# EAGLE library part RJ45-RJE08-188-0110H (library dpx-con-CUSTOM)
Modular Connectors / Ethernet Connectors 8P Modular Jack Unshielded no Flange Source: Datasheet <https://componentsearchengine.com/Datasheets/1/RJE08-188-0110H.pdf>
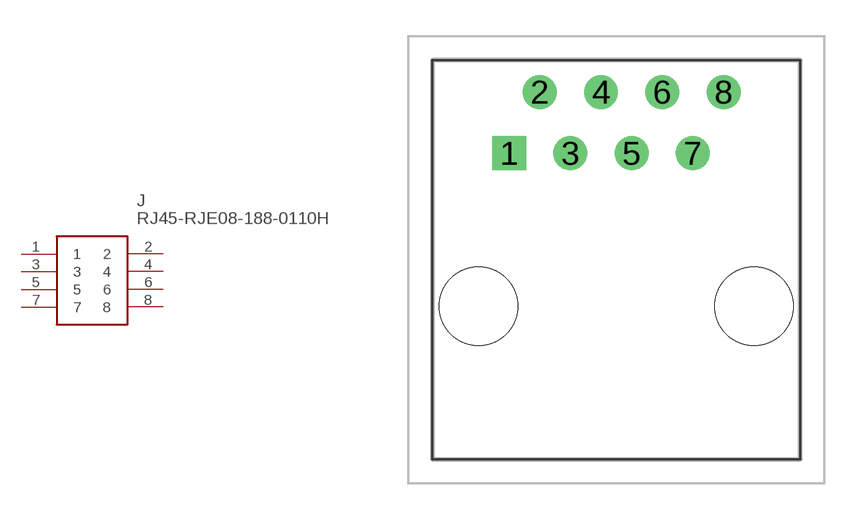
[diagram p0: symbol with the pads of RJ45-AMP-RJE081880110H; footprint RJ45-AMP-RJE081880110H]

Designator prefix J

## RJ45-RJE08-188-0110H (DESCRIPTION: Modular Connectors / Ethernet Connectors 8P Modular Jack Unshielded no Flange; HEIGHT: 16.29mm; MANUFACTURER_NAME: Amphenol; MANUFACTURER_PART_NUMBER: RJE08-188-0110H; MOUSER_PART_NUMBER: 523-RJE081880110H; MOUSER_PRICE-STOCK: https://www.mouser.co.uk/ProductDetail/Amphenol-Commercial-Products/RJE08-188-0110H?qs=bV56W9Bn8znXm6kwioP7mA%3D%3D)  [RJ45-AMP-RJE081880110H]
1  1
2  2
3  3
4  4
5  5
6  6
7  7
8  8

## Footprint RJ45-AMP-RJE081880110H (pad centres in mm)
RJE08-188-0110H-1
drill 0.9 pad 1.4 square: 1 0,0
drill 0.9 pad 1.4: 2 1.27,2.54; 3 2.54,0; 4 3.81,2.54; 5 5.08,0; 6 6.35,2.54; 7 7.62,0; 8 8.89,2.54
hole 3.25 at -1.27,-6.35
hole 3.25 at 10.16,-6.35